# Altium integrated library LoRa-01(M)_PCB&SHC_lib.IntLib: 1 symbol
Pins are listed as number, name and electrical type; pins without a type are passive.

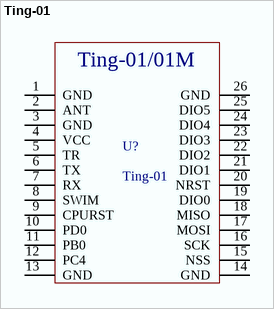
[diagram p0: symbol Ting-01]

## Ting-01
designator U?
LoRa模块
footprint XLoRa
pins: 1 GND, 2 ANT, 3 GND, 4 VCC, 5 TR, 6 TX, 7 RX, 8 SWIM, 9 CPURST, 10 PD0, 11 PB0, 12 PC4, 13 GND, 14 GND, 15 NSS, 16 SCK, 17 MOSI, 18 MISO, 19 DIO0, 20 NRST, 21 DIO1, 22 DIO2, 23 DIO3, 24 DIO4, 25 DIO5, 26 GND
text: Ting-01/01M